# Altium schematic symbol library PTS645.SchLib: 1 symbol
Pins are listed as number, name and electrical type; pins without a type are passive.

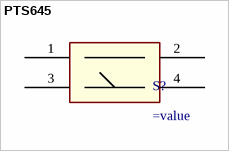
[diagram p0: symbol PTS645]

## PTS645
designator S?
pins: 1, 2, 3, 4